# Altium schematic symbol library EEEHB1V220P.SchLib: 1 symbol
Pins are listed as number, name and electrical type; pins without a type are passive.

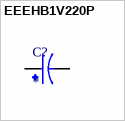
[diagram p0: symbol EEEHB1V220P]

## EEEHB1V220P
designator C?
EEE-HB Series 35 V 22 uF Ã˜ 6.3 x 5.8 mm 105 Â°C SMT V-Chip Aluminum Electrolytic; MP: EEEHB1V220P; MF: Panasonic; Price: None; SnapEDA_Link: https://www.snapeda.com/parts/EEEHB1V220P/Panasonic/view-part/?ref=snap; Purchase-URL: https://pricing.snapeda.com/search/part/EEEHB1V220P/?ref=eda; Value: *; Availability: In Stock; Package: RADIAL-2 Panasonic; Check_prices: https://www.snapeda.com/parts/EEEHB1V220P/Panasonic/view-part/?ref=eda
footprint CAP_EEEHB1V220P
pins: 1, 2